# Altium schematic symbol library Game Boy.SCHLIB: 25 symbols
Pins are listed as number, name and electrical type; pins without a type are passive.

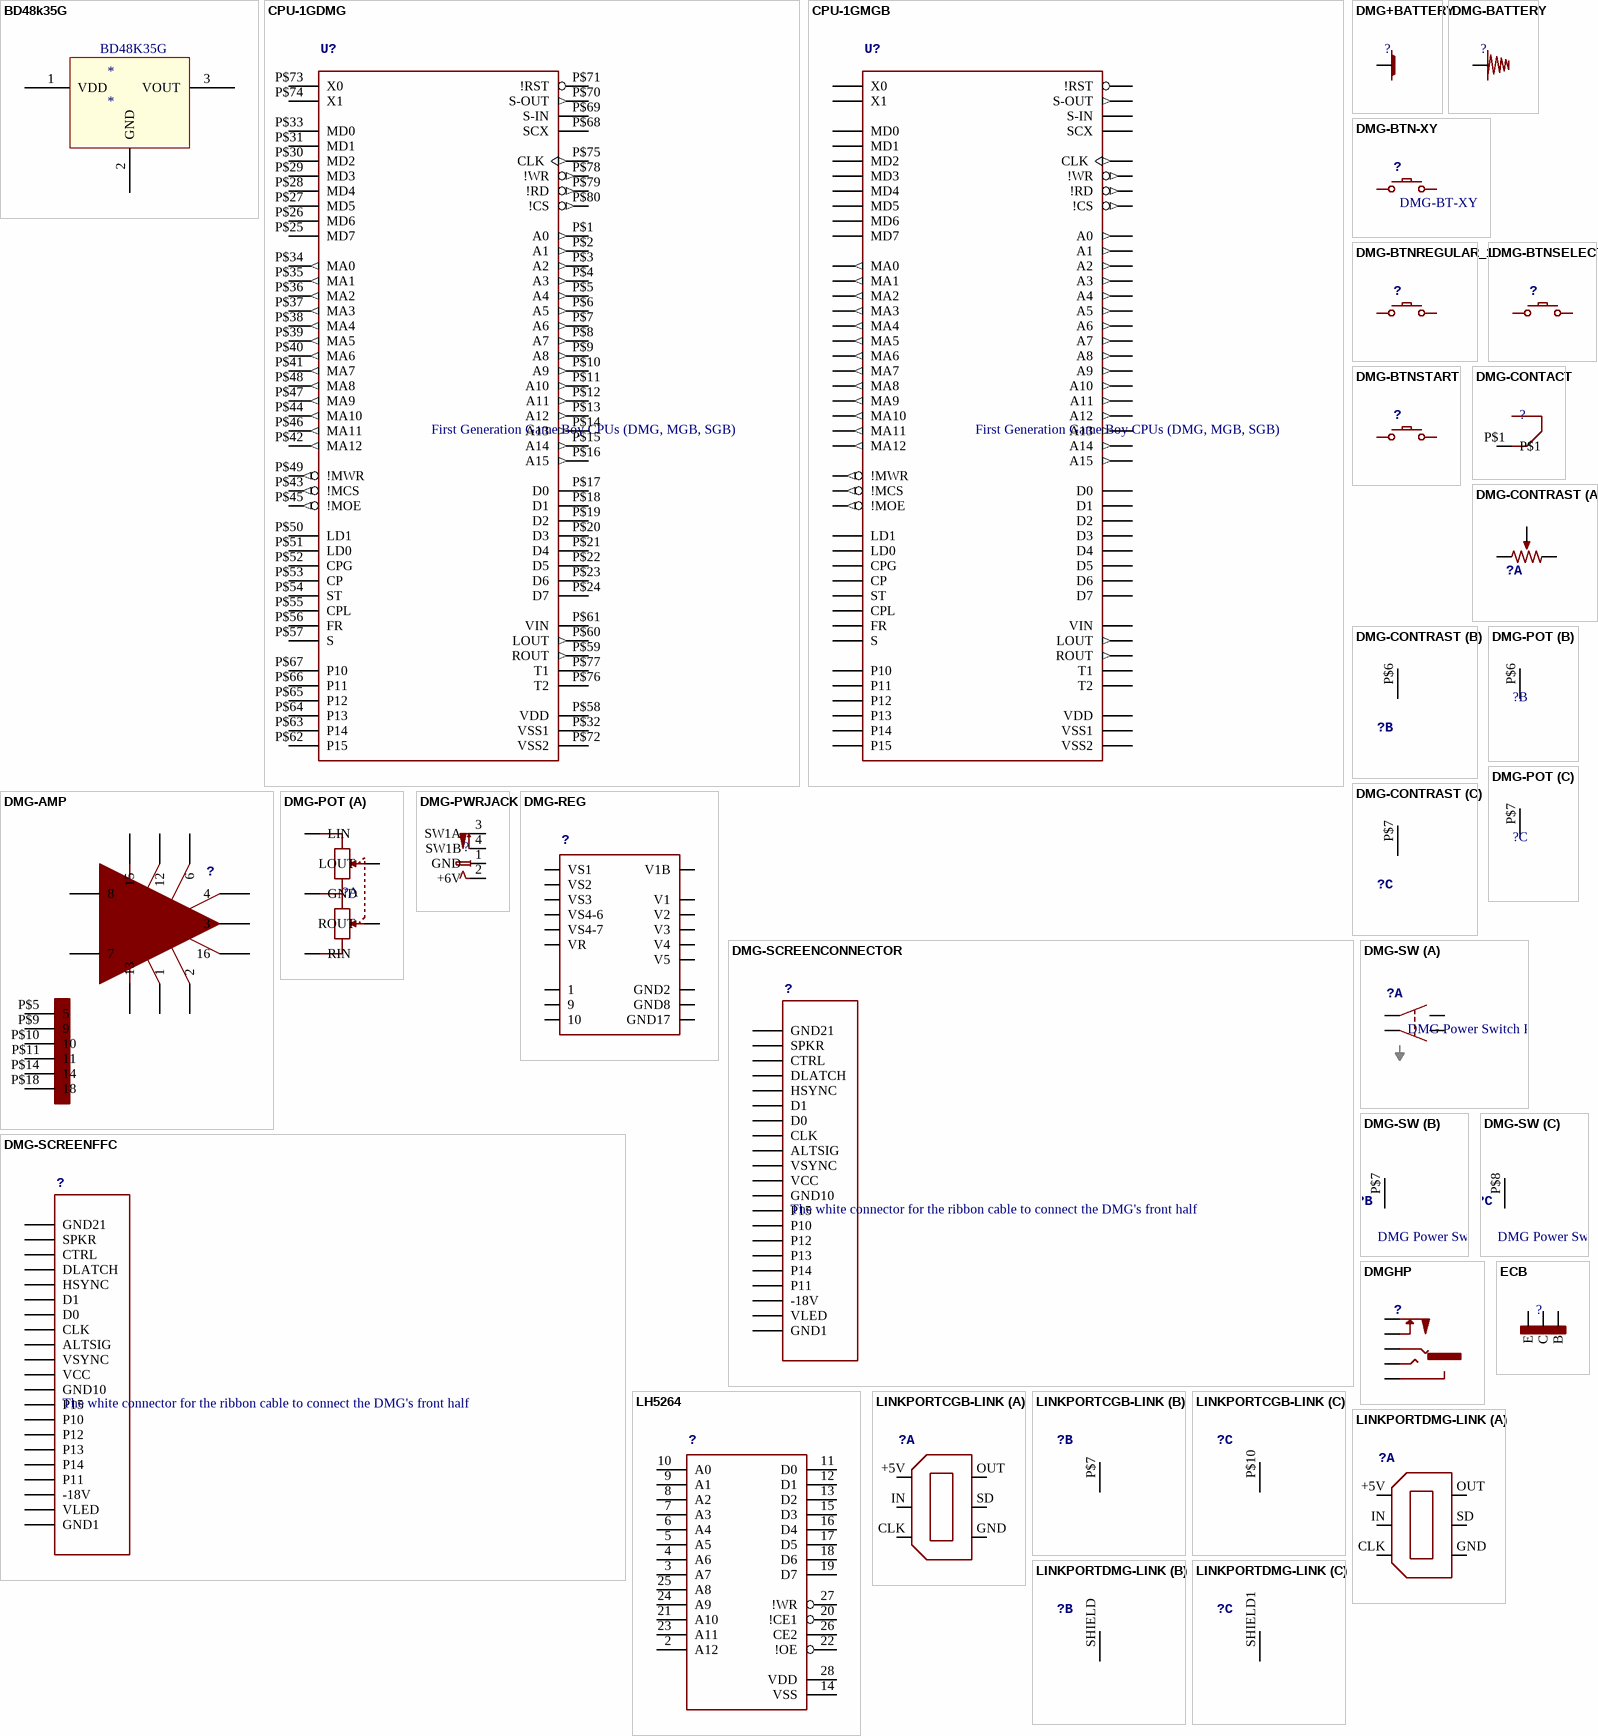
[diagram p0: symbols BD48k35G to LINKPORTDMG-LINK]

## BD48k35G
designator *
pins: 1 VDD, 2 GND, 3 VOUT
text: BD48K35G

## CPU-1GDMG
designator U?, comment First Generation Game Boy CPUs (DMG, MGB, SGB)
footprint CPU-1G
pins: P$1 A0 (out), P$2 A1 (out), P$3 A2 (out), P$4 A3 (out), P$5 A4 (out), P$6 A5 (out), P$7 A6 (out), P$8 A7 (out), P$9 A8 (out), P$10 A9 (out), P$11 A10 (out), P$12 A11 (out), P$13 A12 (out), P$14 A13 (out), P$15 A14 (out), P$16 A15 (out), P$17 D0, P$18 D1, P$19 D2, P$20 D3, P$21 D4, P$22 D5, P$23 D6, P$24 D7, P$25 MD7, P$26 MD6, P$27 MD5, P$28 MD4, P$29 MD3, P$30 MD2, P$31 MD1, P$32 VSS1 (power), P$33 MD0, P$34 MA0 (out), P$35 MA1 (out), P$36 MA2 (out), P$37 MA3 (out), P$38 MA4 (out), P$39 MA5 (out), P$40 MA6 (out), P$41 MA7 (out), P$42 MA12 (out), P$43 !MCS (out), P$44 MA10 (out), P$45 !MOE (out), P$46 MA11 (out), P$47 MA9 (out), P$48 MA8 (out), P$49 !MWR (out), P$50 LD1, P$51 LD0, P$52 CPG, P$53 CP, P$54 ST, P$55 CPL, P$56 FR, P$57 S, P$58 VDD (power), P$59 ROUT (out), P$60 LOUT (out), P$61 VIN, P$62 P15, P$63 P14, P$64 P13, P$65 P12, P$66 P11, P$67 P10, P$68 SCX, P$69 S-IN, P$70 S-OUT (out), P$71 !RST, P$72 VSS2 (power), P$73 X0, P$74 X1, P$75 CLK (out), P$76 T2, P$77 T1, P$78 !WR (out), P$79 !RD (out), P$80 !CS (out)

## CPU-1GMGB
designator U?, comment First Generation Game Boy CPUs (DMG, MGB, SGB)
footprint CPU-1G
pins: ?1 X0, ?2 X1, ?3 MD0, ?4 MD1, ?5 MD2, ?6 MD3, ?7 MD4, ?8 MD5, ?9 MD6, ?10 MD7, ?11 MA0 (out), ?12 MA1 (out), ?13 MA2 (out), ?14 MA3 (out), ?15 MA4 (out), ?16 MA5 (out), ?17 MA6 (out), ?18 MA7 (out), ?19 MA8 (out), ?20 MA9 (out), ?21 MA10 (out), ?22 MA11 (out), ?23 MA12 (out), ?24 !MWR (out), ?25 !MCS (out), ?26 LD1, ?27 LD0, ?28 CPG, ?29 CP, ?30 ST, ?31 CPL, ?32 FR, ?33 S, ?34 P10, ?35 P11, ?36 P12, ?37 P13, ?38 P14, ?39 P15, ?40 !RST, ?41 S-OUT (out), ?42 S-IN, ?43 SCX, ?44 CLK (out), ?45 !WR (out), ?46 !RD (out), ?47 !CS (out), ?48 A0 (out), ?49 A1 (out), ?50 A2 (out), ?51 A3 (out), ?52 A4 (out), ?53 A5 (out), ?54 A6 (out), ?55 A7 (out), ?56 A8 (out), ?57 A9 (out), ?58 A10 (out), ?59 A11 (out), ?60 A12 (out), ?61 A13 (out), ?62 A14 (out), ?63 A15 (out), ?64 D0, ?65 D1, ?66 D2, ?67 D3, ?68 D4, ?69 D5, ?70 D6, ?71 D7, ?72 VIN, ?73 LOUT (out), ?74 ROUT (out), ?75 T1, ?76 T2, ?77 VSS2 (power), ?78 VDD (power), ?79 VSS1 (power), ?80 !MOE (out)

## DMG+BATTERY
designator ?
footprint DMG+BATTERY
pins: P$1

## DMG-AMP
designator ?
footprint DMG-AMP
pins: P$1 1, P$2 2, P$3 3, P$4 4, P$5 5, P$6 6, P$7 7, P$8 8, P$9 9, P$10 10, P$11 11, P$12 12, P$13 13, P$14 14, P$15 15, P$16 16, P$18 18

## DMG-BATTERY
designator ?
footprint DMG-BATTERY
pins: P$1

## DMG-BTN-XY
designator ?, comment DMG-BT-XY
BotonXY: *
footprint DMG-BTN -XY
pins: 1, 2

## DMG-BTNREGULAR_1
designator ?
footprint DMG-BTN
pins: P$1, P$2

## DMG-BTNSELECT
designator ?
footprint DMG-SEL
pins: P$1, P$2

## DMG-BTNSTART
designator ?
footprint DMG-ST
pins: P$1, P$2

## DMG-CONTACT
designator ?
footprint DMG-CONTACT
pins: P$1

## DMG-CONTRAST
designator ?
footprint DMG-POT
part A pins: P$1 1, P$2 2, P$5 3
part B pins: P$6 GND (power)
part C pins: P$7 GND (power)

## DMG-POT
designator ?
footprint DMG-POT
part A pins: P$1 GND, P$2 ROUT, P$3 LOUT, P$4 LIN, P$5 RIN
part B pins: P$6 GND (power)
part C pins: P$7 GND (power)

## DMG-PWRJACK
designator ?
footprint DMG-PWRJACK
pins: 1 GND, 2 +6V, 3 SW1A, 4 SW1B

## DMG-REG
designator ?
footprint DMG-AMP
pins: P$1 1, P$2 GND2, P$3 VS1, P$4 VS2, P$5 VS3, P$6 VS4-6, P$7 VS4-7, P$8 GND8, P$9 9, P$10 10, P$11 V1B, P$12 V1, P$13 V4, P$14 V5, P$15 V2, P$16 V3, P$17 GND17, P$18 VR

## DMG-SCREENCONNECTOR
designator ?, comment The white connector for the ribbon cable to connect the DMG's front half
footprint DMG-SCREEN
pins: P$1 GND1, P$2 VLED, P$3 -18V, P$4 P11, P$5 P14, P$6 P13, P$7 P12, P$8 P10, P$9 P15, P$10 GND10, P$11 VCC, P$12 VSYNC, P$13 ALTSIG, P$14 CLK, P$15 D0, P$16 D1, P$17 HSYNC, P$18 DLATCH, P$19 CTRL, P$20 SPKR, P$21 GND21

## DMG-SCREENFFC
designator ?, comment The white connector for the ribbon cable to connect the DMG's front half
footprint DMG-FFC
pins: P$1 GND1, P$2 VLED, P$3 -18V, P$4 P11, P$5 P14, P$6 P13, P$7 P12, P$8 P10, P$9 P15, P$10 GND10, P$11 VCC, P$12 VSYNC, P$13 ALTSIG, P$14 CLK, P$15 D0, P$16 D1, P$17 HSYNC, P$18 DLATCH, P$19 CTRL, P$20 SPKR, P$21 GND21

## DMG-SW
designator ?, comment DMG Power Switch Pins 1 and 2 are only connected when the power is ON, pins 3 and 4 are only connected when the power is OFF.
footprint DMG-SWITCH
part A pins: P$1 1, P$2 2, P$3 3, P$4 4
part B pins: P$7 GND (power)
part C pins: P$8 GND (power)

## DMGHP
designator ?
footprint DMG-HEADPHONE
pins: GND SWB, R, SW T, SWGND S, T SWA

## ECB
designator ?
footprint ECB
pins: P$1 E, P$2 C, P$3 B

## LH5264
designator ?
footprint SO28
pins: 2 A12, 3 A7, 4 A6, 5 A5, 6 A4, 7 A3, 8 A2, 9 A1, 10 A0, 11 D0, 12 D1, 13 D2, 14 VSS (power), 15 D3, 16 D4, 17 D5, 18 D6, 19 D7, 20 !CE1, 21 A10, 22 !OE, 23 A11, 24 A9, 25 A8, 26 CE2, 27 !WR, 28 VDD (power)

## LINKPORTCGB-LINK
designator ?
footprint CGB-LINK
part A pins: +5V, CLK, GND, IN, OUT, SD
part B pins: P$7 GND (power)
part C pins: P$10 GND (power)

## LINKPORTDMG-LINK
designator ?
footprint DMG-LINK
part A pins: +5V, CLK, GND, IN, OUT, SD
part B pins: SHIELD GND (power)
part C pins: SHIELD1 GND (power)

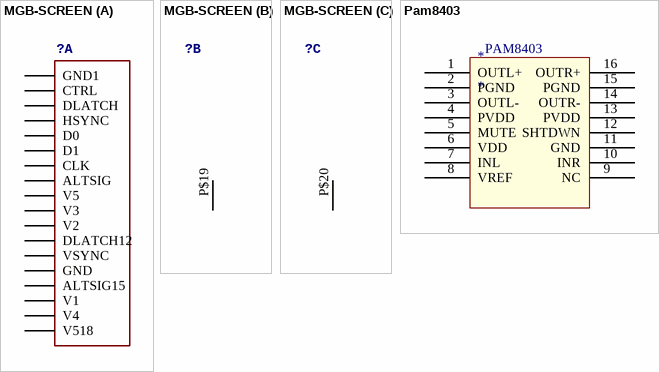
[diagram p1: symbols MGB-SCREEN to Pam8403]

## MGB-SCREEN
designator ?
footprint MGB-SCREEN
part A pins: P$1 GND1, P$2 CTRL, P$3 DLATCH, P$4 HSYNC, P$5 D0, P$6 D1, P$7 CLK, P$8 ALTSIG, P$9 V5, P$10 V3, P$11 V2, P$12 DLATCH12, P$13 VSYNC, P$14 GND, P$15 ALTSIG15, P$16 V1, P$17 V4, P$18 V518
part B pins: P$19 GND (power)
part C pins: P$20 GND (power)

## Pam8403
designator *
pins: 1 OUTL+, 2 PGND, 3 OUTL-, 4 PVDD, 5 MUTE, 6 VDD, 7 INL, 8 VREF, 9 NC, 10 INR, 11 GND, 12 SHTDWN, 13 PVDD, 14 OUTR-, 15 PGND, 16 OUTR+
text: PAM8403